# Altium integrated library Library_Lesson.IntLib: 1 symbol
Pins are listed as number, name and electrical type; pins without a type are passive.

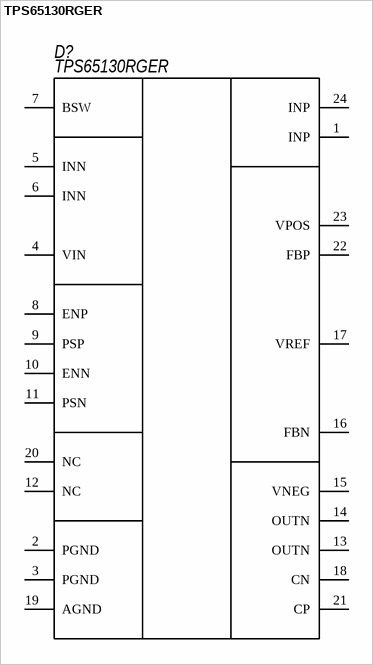
[diagram p0: symbol TPS65130RGER]

## TPS65130RGER
designator D?
DC-DC StepUp; Manufacture: Texas Instruments; Model: TPS65130RGER; HelpURL: https://www.digikey.com/en/products/detail/texas-instruments/TPS65130RGER/660211; Case: 24-VQFN
footprint 24-QFN (PQFN, 24-Leads, Body 4,00x4,00mm, Pitch 0,50mm, Thermal Pad 2,45x2,45mm, IPC Medium Density)
pins: 1 INP (power), 2 PGND (power), 3 PGND (power), 4 VIN (power), 5 INN (power), 6 INN (power), 7 BSW (power), 8 ENP (power), 9 PSP (power), 10 ENN (power), 11 PSN (power), 12 NC (power), 13 OUTN (power), 14 OUTN (power), 15 VNEG (power), 16 FBN (power), 17 VREF (power), 18 CN (power), 19 AGND (power), 20 NC (power), 21 CP (power), 22 FBP (power), 23 VPOS (power), 24 INP (power)